# Altium footprint library HC-027.PcbLib: 1 footprints
Each footprint in its own frame and in the unit in brackets; x right, y up, seen from the top. Pads: shape width x height; smd on the part's side, far side on the other; paste and mask are expansions set on the pad; w line width, h text height; cw(c..) or ccw(c..) is an arc to the next point about the centre after c.
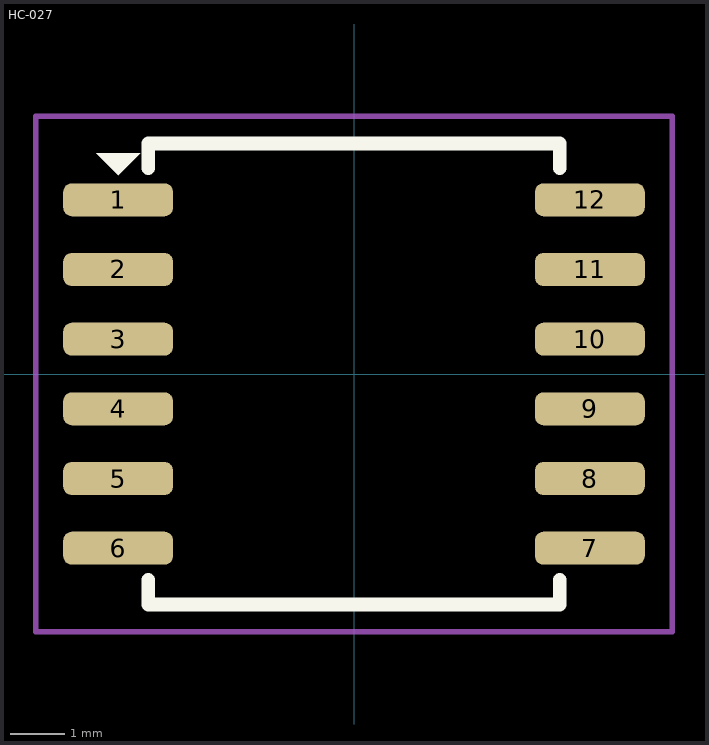
[diagram p0: the footprint, top view; thin cyan lines are the x and y axes]

## HC-027 [mm]
pads (12):
  rrect50% 2x0.6 smd: 1(-4.3,3.175) 2(-4.3,1.905) 3(-4.3,0.635) 4(-4.3,-0.635) 5(-4.3,-1.905) 6(-4.3,-3.175) 7(4.3,-3.175) 8(4.3,-1.905) 9(4.3,-0.635) 10(4.3,0.635) 11(4.3,1.905) 12(4.3,3.175)
Top Overlay:
  region: -4.7,4.025 -3.9,4.025 -4.3,3.625
  lines w0.25: -3.75,-3.75 -3.75,-4.2 3.75,-4.2 3.75,-3.75 ; -3.75,3.75 -3.75,4.2 3.75,4.2 3.75,3.75
Top Courtyard:
  lines w0.1: -5.8,-4.7 5.8,-4.7 5.8,4.7 -5.8,4.7 -5.8,-4.7
3D body: height 2.2, standoff 0, extent -3.75,-4.2 3.75,4.2